# Altium schematic symbol library Memory_NVRAM.SchLib: 20 symbols
Pins are listed as number, name and electrical type; pins without a type are passive.

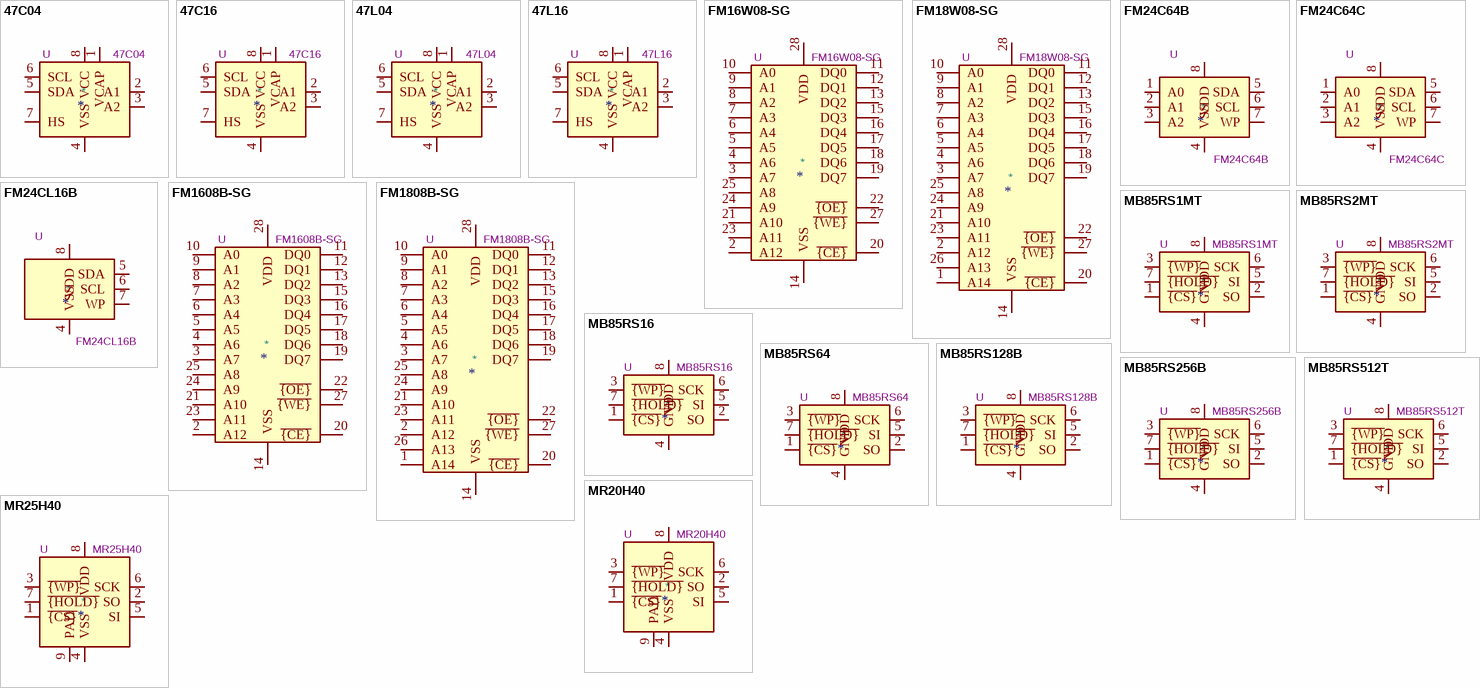
[diagram p0: symbols 47C04 to MR25H40]

## 47C04
designator *  value 47C04  Reference: U
ki_keywords: 4kb 5V I2C serial EERAM SRAM EEPROM; ki_description: 4kbit I2C serial EERAM, SRAM with EEPROM backup, 4.5-5.5V, DIP-8/SOIC-8/TSSOP-8; ki_fp_filters: DIP*W7.62mm* SOIC*3.9x4.9mm*P1.27mm* TSSOP*4.4x3mm*P0.65mm*; Datasheet: http://ww1.microchip.com/downloads/en/DeviceDoc/20005371C.pdf
pins: 1 VCAP, 2 A1, 3 A2, 4 VSS, 5 SDA, 6 SCL, 7 HS, 8 VCC

## 47C16
designator *  value 47C16  Reference: U
ki_keywords: 16kb 5V I2C serial EERAM SRAM EEPROM; ki_description: 16kbit I2C serial EERAM, SRAM with EEPROM backup, 4.5-5.5V, DIP-8/SOIC-8/TSSOP-8; ki_fp_filters: DIP*W7.62mm* SOIC*3.9x4.9mm*P1.27mm* TSSOP*4.4x3mm*P0.65mm*; Datasheet: http://ww1.microchip.com/downloads/en/DeviceDoc/20005371C.pdf
pins: 1 VCAP, 2 A1, 3 A2, 4 VSS, 5 SDA, 6 SCL, 7 HS, 8 VCC

## 47L04
designator *  value 47L04  Reference: U
ki_keywords: 4kb 3V I2C serial EERAM SRAM EEPROM; ki_description: 4kbit I2C serial EERAM, SRAM with EEPROM backup, 2.7-3.6V, DIP-8/SOIC-8/TSSOP-8; ki_fp_filters: DIP*W7.62mm* SOIC*3.9x4.9mm*P1.27mm* TSSOP*4.4x3mm*P0.65mm*; Datasheet: http://ww1.microchip.com/downloads/en/DeviceDoc/20005371C.pdf
pins: 1 VCAP, 2 A1, 3 A2, 4 VSS, 5 SDA, 6 SCL, 7 HS, 8 VCC

## 47L16
designator *  value 47L16  Reference: U
ki_keywords: 16kb 3V I2C serial EERAM SRAM EEPROM; ki_description: 16kbit I2C serial EERAM, SRAM with EEPROM backup, 2.7-3.6V, DIP-8/SOIC-8/TSSOP-8; ki_fp_filters: DIP*W7.62mm* SOIC*3.9x4.9mm*P1.27mm* TSSOP*4.4x3mm*P0.65mm*; Datasheet: http://ww1.microchip.com/downloads/en/DeviceDoc/20005371C.pdf
pins: 1 VCAP, 2 A1, 3 A2, 4 VSS, 5 SDA, 6 SCL, 7 HS, 8 VCC

## FM16W08-SG
designator *  value FM16W08-SG  Reference: U
ki_keywords: FRAM 5V Parallel; ki_description: 64Kb FRAM nonvolatile memory, SOIC-28; ki_fp_filters: SOIC?28*7.5x17.9mm*P1.27mm*; Footprint: Package_SO:SOIC-28W_7.5x17.9mm_P1.27mm; Datasheet: http://www.cypress.com/file/41731/download
pins: 2 A12, 3 A7, 4 A6, 5 A5, 6 A4, 7 A3, 8 A2, 9 A1, 10 A0, 11 DQ0, 12 DQ1, 13 DQ2, 14 VSS, 15 DQ3, 16 DQ4, 17 DQ5, 18 DQ6, 19 DQ7, 20 ~{{CE}}, 21 A10, 22 ~{{OE}}, 23 A11, 24 A9, 25 A8, 27 ~{{WE}}, 28 VDD

## FM18W08-SG
designator *  value FM18W08-SG  Reference: U
ki_keywords: FRAM 5V Parallel; ki_description: 256k FRAM nonvolatile memory, SOIC-28; ki_fp_filters: SOIC*7.5x17.9mm*P1.27mm*; Footprint: Package_SO:SOIC-28W_7.5x17.9mm_P1.27mm; Datasheet: http://www.cypress.com/file/136521/download
pins: 1 A14, 2 A12, 3 A7, 4 A6, 5 A5, 6 A4, 7 A3, 8 A2, 9 A1, 10 A0, 11 DQ0, 12 DQ1, 13 DQ2, 14 VSS, 15 DQ3, 16 DQ4, 17 DQ5, 18 DQ6, 19 DQ7, 20 ~{{CE}}, 21 A10, 22 ~{{OE}}, 23 A11, 24 A9, 25 A8, 26 A13, 27 ~{{WE}}, 28 VDD

## FM24C64B
designator *  value FM24C64B  Reference: U
ki_keywords: FRAM I2C Serial 5V FRAM NVRAM; ki_description: 64Kb serial FRAM nonvolatile Memory, SOIC-8; ki_fp_filters: SOIC*3.9x4.9mm*P1.27mm*; Footprint: Package_SO:SOIC-8_3.9x4.9mm_P1.27mm; Datasheet: http://www.cypress.com/file/41651/download
pins: 1 A0, 2 A1, 3 A2, 4 VSS, 5 SDA, 6 SCL, 7 WP, 8 VDD

## FM24C64C
designator *  value FM24C64C  Reference: U
ki_keywords: FRAM I2C Serial 5V FRAM NVRAM; ki_description: 64Kb serial FRAM nonvolatile Memory, SOIC-8; ki_fp_filters: SOIC*3.9x4.9mm*P1.27mm*; Footprint: Package_SO:SOIC-8_3.9x4.9mm_P1.27mm; Datasheet: http://www.cypress.com/file/41651/download
pins: 1 A0, 2 A1, 3 A2, 4 VSS, 5 SDA, 6 SCL, 7 WP, 8 VDD

## FM24CL16B
designator *  value FM24CL16B  Reference: U
ki_keywords: FRAM I2C Serial 3.6V FRAM NVRAM; ki_description: 16Kb serial FRAM nonvolatile Memory, SOIC-8; ki_fp_filters: SOIC*3.9x4.9mm*P1.27mm*; Footprint: Package_SO:SOIC-8_3.9x4.9mm_P1.27mm; Datasheet: https://www.infineon.com/dgdl/Infineon-FM24CL16B_16-Kbit_(2_K_8)_Serial_(I2C)_F-RAM-DataSheet-v13_00-EN.pdf?fileId=8ac78c8c7d0d8da4017d0ec99cb241e9
pins: 1 hidden, 2 hidden, 3 hidden, 4 VSS, 5 SDA, 6 SCL, 7 WP, 8 VDD

## FM1608B-SG
designator *  value FM1608B-SG  Reference: U
ki_keywords: FRAM 5V Parallel; ki_description: 64Kb FRAM nonvolatile memory, SOIC-28; ki_fp_filters: SOIC?28*7.5x17.9mm*P1.27mm*; Footprint: Package_SO:SOIC-28W_7.5x17.9mm_P1.27mm; Datasheet: http://www.cypress.com/file/41731/download
pins: 2 A12, 3 A7, 4 A6, 5 A5, 6 A4, 7 A3, 8 A2, 9 A1, 10 A0, 11 DQ0, 12 DQ1, 13 DQ2, 14 VSS, 15 DQ3, 16 DQ4, 17 DQ5, 18 DQ6, 19 DQ7, 20 ~{{CE}}, 21 A10, 22 ~{{OE}}, 23 A11, 24 A9, 25 A8, 27 ~{{WE}}, 28 VDD

## FM1808B-SG
designator *  value FM1808B-SG  Reference: U
ki_keywords: FRAM 5V Parallel; ki_description: 256k FRAM nonvolatile memory, SOIC-28; ki_fp_filters: SOIC*7.5x17.9mm*P1.27mm*; Footprint: Package_SO:SOIC-28W_7.5x17.9mm_P1.27mm; Datasheet: http://www.cypress.com/file/136521/download
pins: 1 A14, 2 A12, 3 A7, 4 A6, 5 A5, 6 A4, 7 A3, 8 A2, 9 A1, 10 A0, 11 DQ0, 12 DQ1, 13 DQ2, 14 VSS, 15 DQ3, 16 DQ4, 17 DQ5, 18 DQ6, 19 DQ7, 20 ~{{CE}}, 21 A10, 22 ~{{OE}}, 23 A11, 24 A9, 25 A8, 26 A13, 27 ~{{WE}}, 28 VDD

## MB85RS1MT
designator *  value MB85RS1MT  Reference: U
ki_keywords: FRAM SPI 3.3V; ki_description: FRAM memory with SPI interface, SOIC-8 SON-8; ki_fp_filters: SOIC*3.9x5.05mm*P1.27mm* *SON*2x3mm*P0.50mm*; Datasheet: http://www.fujitsu.com/downloads/MICRO/fsa/pdf/products/memory/fram/MB85RS16-DS501-00014-6v0-E.pdf
pins: 1 ~{{CS}}, 2 SO, 3 ~{{WP}}, 4 GND, 5 SI, 6 SCK, 7 ~{{HOLD}}, 8 VDD

## MB85RS2MT
designator *  value MB85RS2MT  Reference: U
ki_keywords: FRAM SPI 3.3V; ki_description: FRAM memory with SPI interface, SOIC-8 SON-8; ki_fp_filters: SOIC*3.9x5.05mm*P1.27mm* *SON*2x3mm*P0.50mm*; Datasheet: http://www.fujitsu.com/downloads/MICRO/fsa/pdf/products/memory/fram/MB85RS16-DS501-00014-6v0-E.pdf
pins: 1 ~{{CS}}, 2 SO, 3 ~{{WP}}, 4 GND, 5 SI, 6 SCK, 7 ~{{HOLD}}, 8 VDD

## MB85RS16
designator *  value MB85RS16  Reference: U
ki_keywords: FRAM SPI 3.3V; ki_description: FRAM memory with SPI interface, SOIC-8 SON-8; ki_fp_filters: SOIC*3.9x5.05mm*P1.27mm* *SON*2x3mm*P0.50mm*; Datasheet: http://www.fujitsu.com/downloads/MICRO/fsa/pdf/products/memory/fram/MB85RS16-DS501-00014-6v0-E.pdf
pins: 1 ~{{CS}}, 2 SO, 3 ~{{WP}}, 4 GND, 5 SI, 6 SCK, 7 ~{{HOLD}}, 8 VDD

## MB85RS64
designator *  value MB85RS64  Reference: U
ki_keywords: FRAM SPI 3.3V; ki_description: FRAM memory with SPI interface, SOIC-8 SON-8; ki_fp_filters: SOIC*3.9x5.05mm*P1.27mm* *SON*2x3mm*P0.50mm*; Datasheet: http://www.fujitsu.com/downloads/MICRO/fme/fram/datasheet-MB85RS64.pdf
pins: 1 ~{{CS}}, 2 SO, 3 ~{{WP}}, 4 GND, 5 SI, 6 SCK, 7 ~{{HOLD}}, 8 VDD

## MB85RS128B
designator *  value MB85RS128B  Reference: U
ki_keywords: FRAM SPI 3.3V; ki_description: FRAM memory with SPI interface, SOIC-8 SON-8; ki_fp_filters: SOIC*3.9x5.05mm*P1.27mm* *SON*2x3mm*P0.50mm*; Datasheet: http://www.fujitsu.com/downloads/MICRO/fsa/pdf/products/memory/fram/MB85RS16-DS501-00014-6v0-E.pdf
pins: 1 ~{{CS}}, 2 SO, 3 ~{{WP}}, 4 GND, 5 SI, 6 SCK, 7 ~{{HOLD}}, 8 VDD

## MB85RS256B
designator *  value MB85RS256B  Reference: U
ki_keywords: FRAM SPI 3.3V; ki_description: FRAM memory with SPI interface, SOIC-8 SON-8; ki_fp_filters: SOIC*3.9x5.05mm*P1.27mm* *SON*2x3mm*P0.50mm*; Datasheet: http://www.fujitsu.com/downloads/MICRO/fsa/pdf/products/memory/fram/MB85RS16-DS501-00014-6v0-E.pdf
pins: 1 ~{{CS}}, 2 SO, 3 ~{{WP}}, 4 GND, 5 SI, 6 SCK, 7 ~{{HOLD}}, 8 VDD

## MB85RS512T
designator *  value MB85RS512T  Reference: U
ki_keywords: FRAM SPI 3.3V; ki_description: FRAM memory with SPI interface, SOIC-8 SON-8; ki_fp_filters: SOIC*3.9x5.05mm*P1.27mm* *SON*2x3mm*P0.50mm*; Datasheet: http://www.fujitsu.com/downloads/MICRO/fsa/pdf/products/memory/fram/MB85RS16-DS501-00014-6v0-E.pdf
pins: 1 ~{{CS}}, 2 SO, 3 ~{{WP}}, 4 GND, 5 SI, 6 SCK, 7 ~{{HOLD}}, 8 VDD

## MR20H40
designator *  value MR20H40  Reference: U
ki_keywords: MRAM SPI EEPROM 3.3V; ki_description: 4Mb MRAM memory with SPI interface, DFN-8; ki_fp_filters: DFN*6x5mm*P1.27mm*; Datasheet: https://www.everspin.com/file/217/download
pins: 1 ~{{CS}}, 2 SO, 3 ~{{WP}}, 4 VSS, 5 SI, 6 SCK, 7 ~{{HOLD}}, 8 VDD, 9 PAD

## MR25H40
designator *  value MR25H40  Reference: U
ki_keywords: MRAM SPI EEPROM 3.3V; ki_description: 4Mb MRAM memory with SPI interface, DFN-8; ki_fp_filters: DFN*6x5mm*P1.27mm*; Datasheet: https://www.everspin.com/file/217/download
pins: 1 ~{{CS}}, 2 SO, 3 ~{{WP}}, 4 VSS, 5 SI, 6 SCK, 7 ~{{HOLD}}, 8 VDD, 9 PAD